# EAGLE library part IV-18 (library Russian-VFD-tubes)
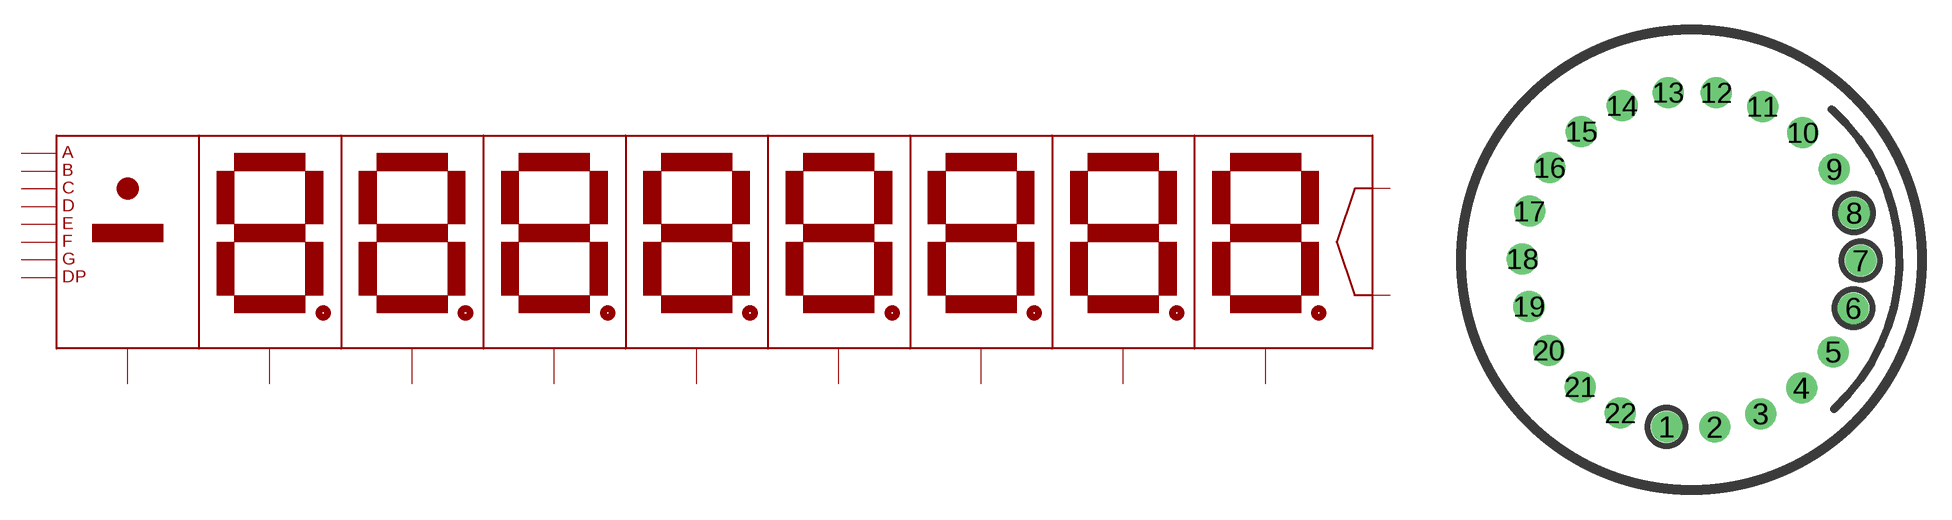
[diagram p1: symbol with the pads of IV-18; footprint IV-18]

Designator prefix -

## IV-18  [IV-18]
1  P$19
2  P$8
3  P$4
4  P$3
5  P$5
9  P$7
10  P$2
11  P$6
12  P$1
13  P$18
14  P$9
15  P$17
16  P$15
17  P$13
18  P$10
19  P$11
20  P$12
21  P$14
22  P$16

## Footprint IV-18 (pad centres in mm)
Eagle SCR autogenerated 22 pin Nixie socket
drill 1.05: 1 -1.27,-8.402; 2 1.175,-8.416; 3 3.524,-7.74; 4 5.587,-6.43; 5 7.198,-4.592; 6 8.226,-2.374; 7 8.587,0.043; 8 8.253,2.464; 9 7.25,4.693; 10 5.659,6.549; 11 3.61,7.882; 12 1.269,8.584; 13 -1.175,8.597; 14 -3.524,7.922; 15 -5.588,6.612; 16 -7.199,4.773; 17 -8.226,2.556; 18 -8.588,0.138; 19 -8.253,-2.283; 20 -7.25,-4.512; 21 -5.66,-6.368; 22 -3.611,-7.701